# Altium schematic symbol library DI_ZENER.SchLib: 1 symbol
Pins are listed as number, name and electrical type; pins without a type are passive.

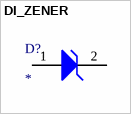
[diagram p0: symbol DI_ZENER]

## DI_ZENER
designator D?
pins: 1 A, 2 K